# EAGLE library part ADS1259 (library TI)
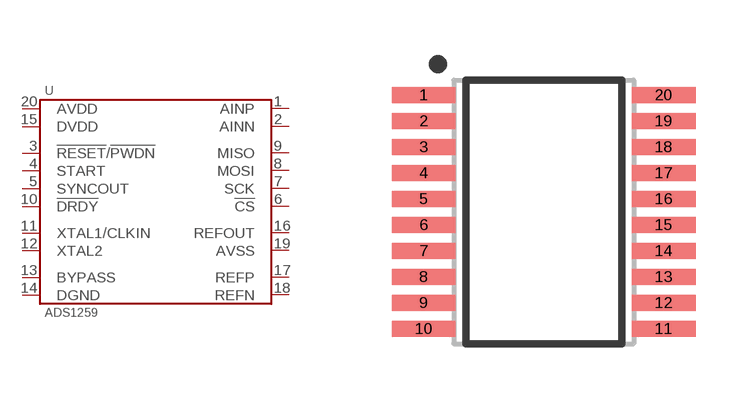
[diagram p18: symbol with the pads of TSSOP-20; footprint TSSOP-20]

Designator prefix U

## ADS1259QPWRQ1  [TSSOP-20]
1  AINP
2  AINN
3  !RESET!/!PWDN
4  START
5  SYNCOUT
6  !CS
7  SCK
8  MOSI
9  MISO
10  !DRDY
11  XTAL1/CLKIN
12  XTAL2
13  BYPASS
14  DGND
15  DVDD
16  REFOUT
17  REFP
18  REFN
19  AVSS
20  AVDD

## Footprint TSSOP-20 (pad centres in mm)
smd 1.6 x 0.4: 1 -3,2.925; 2 -3,2.275; 3 -3,1.625; 4 -3,0.975; 5 -3,0.325; 6 -3,-0.325; 7 -3,-0.975; 8 -3,-1.625; 9 -3,-2.275; 10 -3,-2.925; 11 3,-2.925; 12 3,-2.275; 13 3,-1.625; 14 3,-0.975; 15 3,-0.325; 16 3,0.325; 17 3,0.975; 18 3,1.625; 19 3,2.275; 20 3,2.925